# Altium footprint library D2-PAK_7pin_Infineon.PcbLib: 1 footprints
Each footprint in its own frame and in the unit in brackets; x right, y up, seen from the top. Pads: shape width x height; smd on the part's side, far side on the other; paste and mask are expansions set on the pad; w line width, h text height; cw(c..) or ccw(c..) is an arc to the next point about the centre after c.
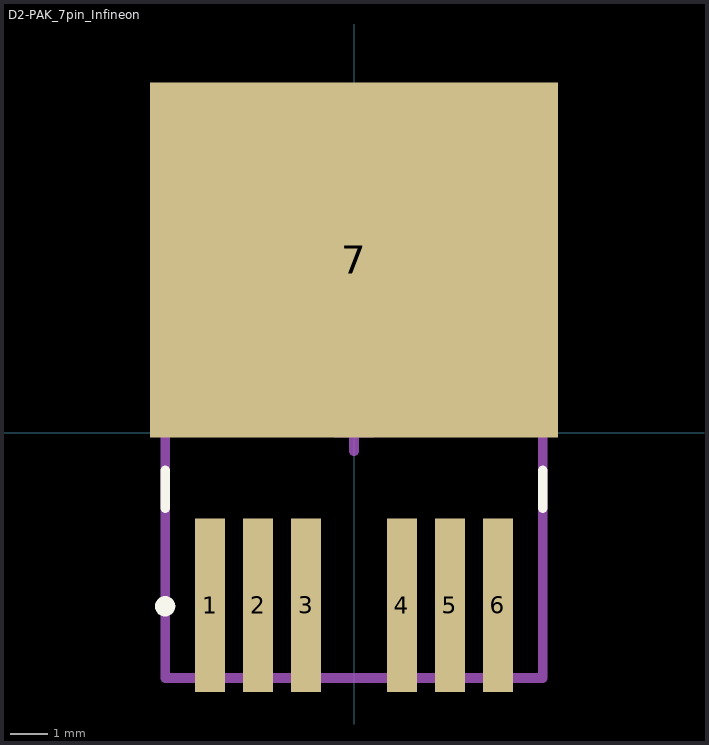
[diagram p0: the footprint, top view; thin cyan lines are the x and y axes]

## D2-PAK_7pin_Infineon [mm]
pads (7):
  rect 0.8x4.6 smd mask+0: 1(-3.81,-4.575) 2(-2.54,-4.575) 3(-1.27,-4.575) 4(1.27,-4.575) 5(2.54,-4.575) 6(3.81,-4.575)
  rect 10.8x9.4 smd mask+0: 7(0,4.575)
Top Overlay:
  circle w0.254: c-5,-4.6 r0.141
  lines w0.254: -5,-4.6 -4.859,-4.6 ; -5,-2 -5,-1 ; 5,-2 5,-1
Mechanical 13:
  lines w0.254: -5,-6.5 -5,8.5 5,8.5 5,-6.5 -5,-6.5
Mechanical 15:
  lines w0.254: -0.5,0 0,0 ; 0,-0.5 0,0 ; 0.5,0 0,0 ; 0,0 0,0.5 0,0
3D body "TO263-7.stp": height 4.22, standoff 0, extent -4.911,-6.526 4.911,8.526